# Altium footprint library CONV_XL4015.PcbLib: 1 footprints
Each footprint in its own frame and in the unit in brackets; x right, y up, seen from the top. Pads: shape width x height; smd on the part's side, far side on the other; paste and mask are expansions set on the pad; w line width, h text height; cw(c..) or ccw(c..) is an arc to the next point about the centre after c.
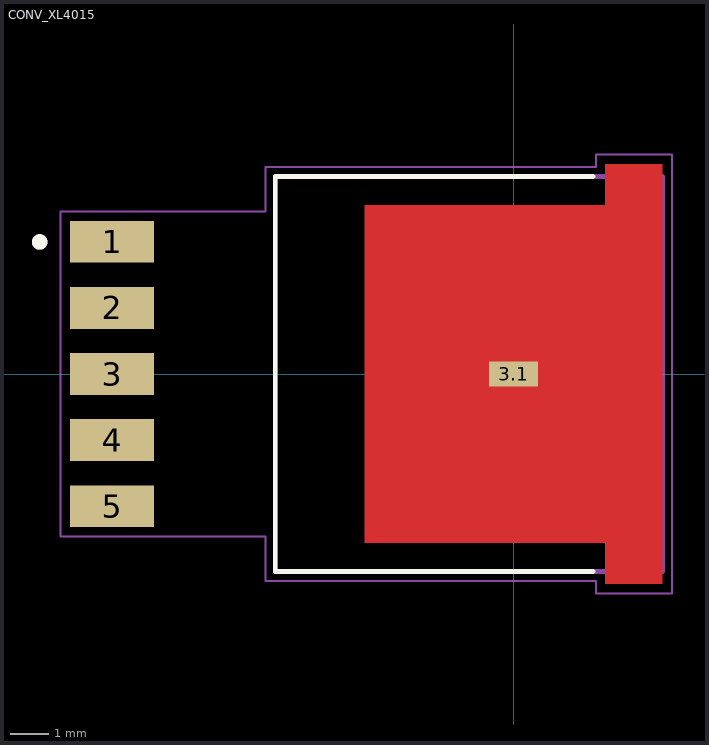
[diagram p0: the footprint, top view; thin cyan lines are the x and y axes]

## CONV_XL4015 [mm]
height 4.77
pads (6):
  rect 2.16x1.07 smd: 1(-10.335,3.4) 2(-10.335,1.7) 3(-10.335,0) 4(-10.335,-1.7) 5(-10.335,-3.4)
  rect 1.27x0.635 smd paste-2 mask+0: 3.1(0,0)
Top Layer:
  region: 3.835,-5.4 2.365,-5.4 2.365,-4.35 -3.835,-4.35 -3.835,4.35 2.365,4.35 2.365,5.4 3.835,5.4
Top Overlay:
  circle w0.2: c-12.2,3.4 r0.1
  lines w0.127: 2.05,-5.08 -6.135,-5.08 -6.135,5.08 2.05,5.08
Top Paste:
  region: -0.6,0.88 -3.2,0.88 -3.2,3.48 -0.6,3.48
  region: 3.2,-3.48 0.6,-3.48 0.6,-0.88 3.2,-0.88
  region: -0.6,-3.48 -3.2,-3.48 -3.2,-0.88 -0.6,-0.88
  region: 3.2,0.88 0.6,0.88 0.6,3.48 3.2,3.48
Top Solder:
  region: 3.935,-5.5 2.265,-5.5 2.265,-4.45 -3.935,-4.45 -3.935,4.45 2.265,4.45 2.265,5.5 3.935,5.5
Assembly Top:
  circle w0.2: c-12.2,3.4 r0.1
  lines w0.127: -6.135,-5.08 3.835,-5.08 3.835,5.08 -6.135,5.08 -6.135,-5.08
Courtyard Top:
  lines w0.05: -11.665,-4.185 -6.385,-4.185 -6.385,-5.33 2.12,-5.33 2.12,-5.65 4.085,-5.65 4.085,5.65 2.12,5.65 2.12,5.33 -6.385,5.33 -6.385,4.185 -11.665,4.185 -11.665,-4.185
3D body "step_temp.STEP": height 4.7, standoff -0.15, extent -10.795,-5.08 3.555,5.08